# EAGLE library part CAT9532 (library comp)
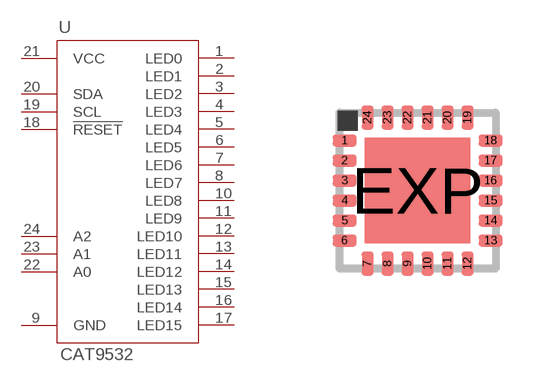
[diagram p1: symbol with the pads of TQFN24-EP; footprint TQFN24-EP]

Designator prefix -

## CAT9532  [TQFN24-EP]
1  LED0
2  LED1
3  LED2
4  LED3
5  LED4
6  LED5
7  LED6
8  LED7
9  GND
10  LED8
11  LED9
12  LED10
13  LED11
14  LED12
15  LED13
16  LED14
17  LED15
18  !RESET
19  SCL
20  SDA
21  VCC
22  A0
23  A1
24  A2

## Footprint TQFN24-EP (pad centres in mm)
24 TQFN-EP 24 T2444-4 Source: http://datasheets.maxim-ic.com/en/ds/MAX4947-MAX4948.pdf
smd 0.6 x 0.3: 1 -1.825,1.25; 2 -1.825,0.75; 3 -1.825,0.25; 4 -1.825,-0.25; 5 -1.825,-0.75; 6 -1.825,-1.25; 13 1.825,-1.25; 14 1.825,-0.75; 15 1.825,-0.25; 16 1.825,0.25; 17 1.825,0.75; 18 1.825,1.25
smd 0.3 x 0.6: 7 -1.25,-1.825; 8 -0.75,-1.825; 9 -0.25,-1.825; 10 0.25,-1.825; 11 0.75,-1.825; 12 1.25,-1.825; 19 1.25,1.825; 20 0.75,1.825; 21 0.25,1.825; 22 -0.25,1.825; 23 -0.75,1.825; 24 -1.25,1.825
smd 2.63 x 2.63: EXP 0,0